# Altium footprint library SOT23-3P95_230X110L30X43N.PcbLib: 1 footprints
Each footprint in its own frame and in the unit in brackets; x right, y up, seen from the top. Pads: shape width x height; smd on the part's side, far side on the other; paste and mask are expansions set on the pad; w line width, h text height; cw(c..) or ccw(c..) is an arc to the next point about the centre after c.
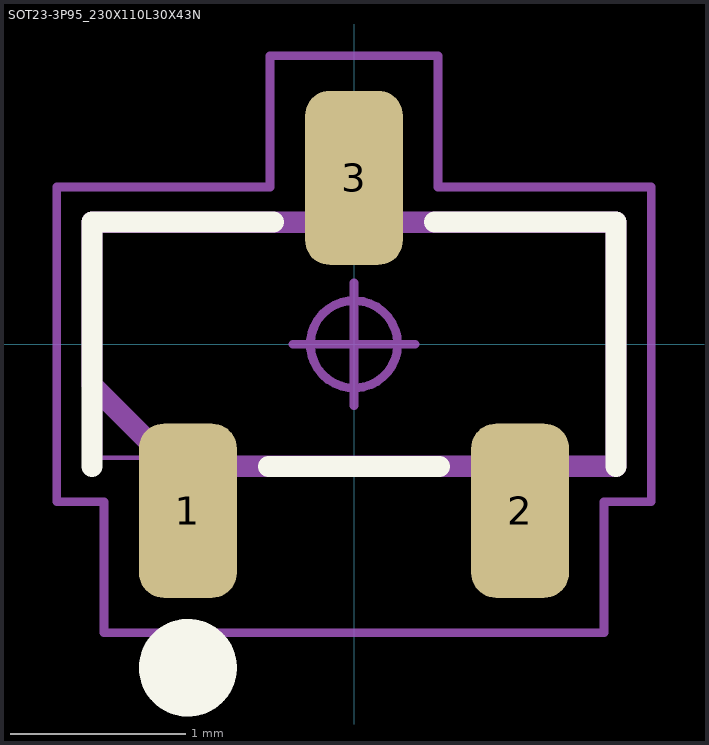
[diagram p0: the footprint, top view; thin cyan lines are the x and y axes]

## SOT23-3P95_230X110L30X43N [mm] "Small Outline Transistor, SOT-23 Type, 0.95 mm pitch; 3 pin, 2.90 mm L X 1.30 mm W X 1.10 mm H body"
height 1.1
pads (3):
  rrect50% 0.56x0.996 smd mask+0.05: 1(-0.95,-0.952) 2(0.95,-0.952) 3(0,0.952)
Top Overlay:
  circle w0.28: c-0.95,-1.85 r0.14
  lines w0.12: -1.5,-0.7 -1.5,0.7 -0.46,0.7 ; -0.49,-0.7 0.49,-0.7 ; 0.46,0.7 1.5,0.7 1.5,-0.7
Mechanical 11:
  lines w0.12: -1.5,-0.233 -1.5,0.7 1.5,0.7 1.5,-0.7 -1.033,-0.7 -1.5,-0.233
Mechanical 12:
  lines w0.025: -1.45,-0.65 1.45,-0.65 1.45,0.65 -1.45,0.65 -1.45,-0.65 ; -1.165,-1.15 -1.165,-0.85 -0.735,-0.85 -0.735,-1.15 -1.165,-1.15 ; -0.215,0.85 -0.215,1.15 0.215,1.15 0.215,0.85 -0.215,0.85 ; 0.735,-1.15 0.735,-0.85 1.165,-0.85 1.165,-1.15 0.735,-1.15
Mechanical 15:
  circle w0.05: c0,0 r0.25
  lines w0.05: -0.35,0 0.35,0 ; 0,-0.35 0,0.35 ; -1.7,-0.9 -1.43,-0.9 -1.43,-1.65 1.43,-1.65 1.43,-0.9 1.7,-0.9 1.7,0.9 0.48,0.9 0.48,1.65 -0.48,1.65 -0.48,0.9 -1.7,0.9 -1.7,-0.9
Mechanical 16:
  text ".Designator" at 0,0 h1.2
3D body "SOT23-3P95_230X110L30X43.STEP": height 1.1, standoff 0, extent -1.45,-1.15 1.45,1.15